# Altium footprint library CLP_v1.2_PcbLib.PcbLib: 3 footprints
Each footprint in its own frame and in the unit in brackets; x right, y up, seen from the top. Pads: shape width x height; smd on the part's side, far side on the other; paste and mask are expansions set on the pad; w line width, h text height; cw(c..) or ccw(c..) is an arc to the next point about the centre after c.
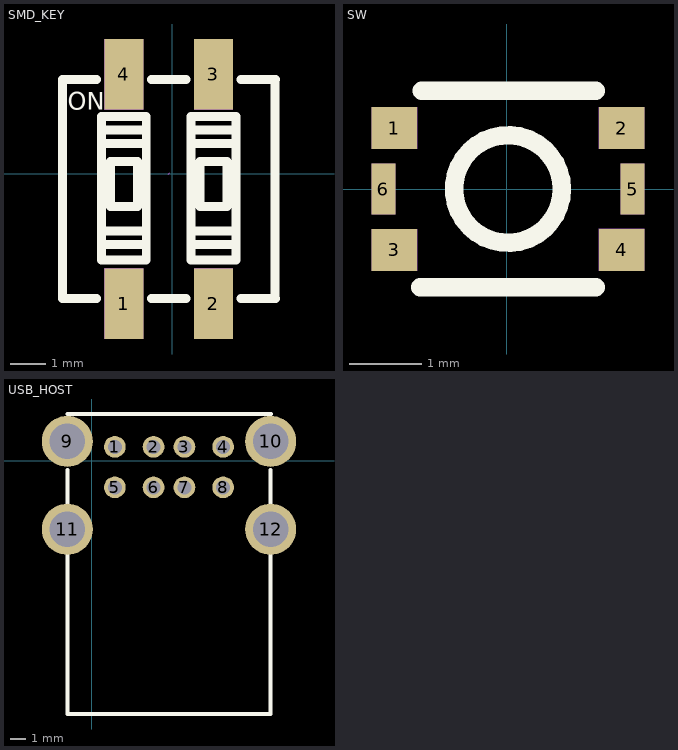
[diagram p0: the footprints below, top view; thin cyan lines are the x and y axes]

## SMD_KEY [mm] "boot && led_key"
pads (4):
  rect 1.1x2 smd: 1(-1.372,-3.686) 2(1.168,-3.686) 3(1.168,2.814) 4(-1.372,2.814)
Top Overlay:
  lines w0.254: -2.153,-3.536 -3.112,-3.536 -3.112,2.664 -2.153,2.664 ; -2.007,-2.006 -0.737,-2.006 ; -2.007,-1.625 -0.737,-1.625 ; -2.007,0.852 -0.737,0.852 ; -2.007,1.233 -0.737,1.233 ; -0.591,-3.536 0.387,-3.536 ; -0.591,2.664 0.387,2.664 ; 0.533,-2.006 1.803,-2.006 ; 0.533,-1.625 1.803,-1.625 ; 0.533,0.852 1.803,0.852 ; 0.533,1.233 1.803,1.233 ; 1.949,-3.536 2.927,-3.536 ; 1.949,2.664 2.927,2.664 ; 2.908,-3.536 2.908,2.664 ; -2.007,-2.45 -0.737,-2.45 -0.737,1.614 -2.007,1.614 -2.007,-2.45 ; -1.753,-0.926 -0.991,-0.926 -0.991,0.344 -1.753,0.344 -1.753,-0.926 ; 0.533,-2.45 1.803,-2.45 1.803,1.614 0.533,1.614 0.533,-2.45 ; 0.787,-0.926 1.549,-0.926 1.549,0.344 0.787,0.344 0.787,-0.926
  text "ON" at -2.962,1.814 h0.5
Mechanical 1:
  lines w0.003: -0.118,-0.023 -0.067,0.028
Mechanical 5:
  region: -1.922,-2.686 -0.822,-2.686 -0.822,-4.686 -1.922,-4.686
  region: 0.618,-2.686 1.718,-2.686 1.718,-4.686 0.618,-4.686
  region: 0.618,3.814 1.718,3.814 1.718,1.814 0.618,1.814
  region: -1.922,3.814 -0.822,3.814 -0.822,1.814 -1.922,1.814
3D body "SMD_KEY.STEP": height 1, standoff -0.55, extent -2.06,-3.825 1.71,2.875

## SW [mm] "key"
pads (6):
  rect 0.625x0.575 smd: 1(-1.547,0.839) 2(1.577,0.839) 3(-1.547,-0.835) 4(1.577,-0.835)
  rect 0.325x0.7 smd: 5(1.727,0.002) 6(-1.697,0.002)
Top Overlay:
  circle w0.254: c0.015,0.002 r0.741
  lines w0.254: -1.192,-1.348 1.222,-1.348 ; -1.17,1.352 1.222,1.352
Mechanical 5:
  region: -1.86,1.127 -1.235,1.127 -1.235,0.552 -1.86,0.552
  region: 1.265,1.127 1.89,1.127 1.89,0.552 1.265,0.552
  region: -1.86,-0.548 -1.235,-0.548 -1.235,-1.123 -1.86,-1.123
  region: 1.265,-0.548 1.89,-0.548 1.89,-1.123 1.265,-1.123
  region: 1.565,0.352 1.89,0.352 1.89,-0.348 1.565,-0.348
  region: -1.86,0.352 -1.535,0.352 -1.535,-0.348 -1.86,-0.348
3D body "贴片开关.STEP": height 0.55, standoff 0, extent -1.525,-1.05 1.475,1.05

## USB_HOST [mm] "KH-2AF90DIP-1715"
pads (12):
  round 1.4 hole 0.9: 1(1.5,0.9) 2(4,0.9) 3(6,0.9) 4(8.5,0.9) 5(1.5,-1.72) 6(4,-1.72) 7(6,-1.72) 8(8.5,-1.72)
  round 3.3 hole 2.3: 9(-1.57,1.25) 10(11.57,1.25) 11(-1.57,-4.43) 12(11.57,-4.43)
Top Overlay:
  lines w0.254: -1.57,-0.6 -1.57,-16.37 11.57,-16.37 11.57,-0.6 ; -1.57,3.02 11.58,3.02
3D body "112320.stp": height 15.6, standoff -4.04, extent -2.791,-15.25 12.952,2.3
3D body: height 0.25, standoff 0, extent -7.25,5.425 -7.25,5.425